# Altium schematic symbol library inductor.SchLib: 1 symbol
Pins are listed as number, name and electrical type; pins without a type are passive.

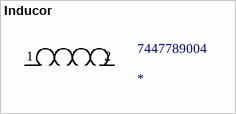
[diagram p0: symbol Inducor]

## Inducor
designator 7447789004
4.7 µH Shielded Drum Core, Wirewound Inductor 2.9 A 35mOhm Max Nonstandard; Manufactureer: Würth Elektronik; Manufacturer part no:: 7447789004
footprint INDUCTOR (Precision Wire Wound Inductor, 2-Leads, Body 7.30x7.30mm, IPC Medium Density)
pins: 1, 2